# EAGLE library part 74LS189 (library ds_ic_memory)
64 Bit RAM with 3 State Output
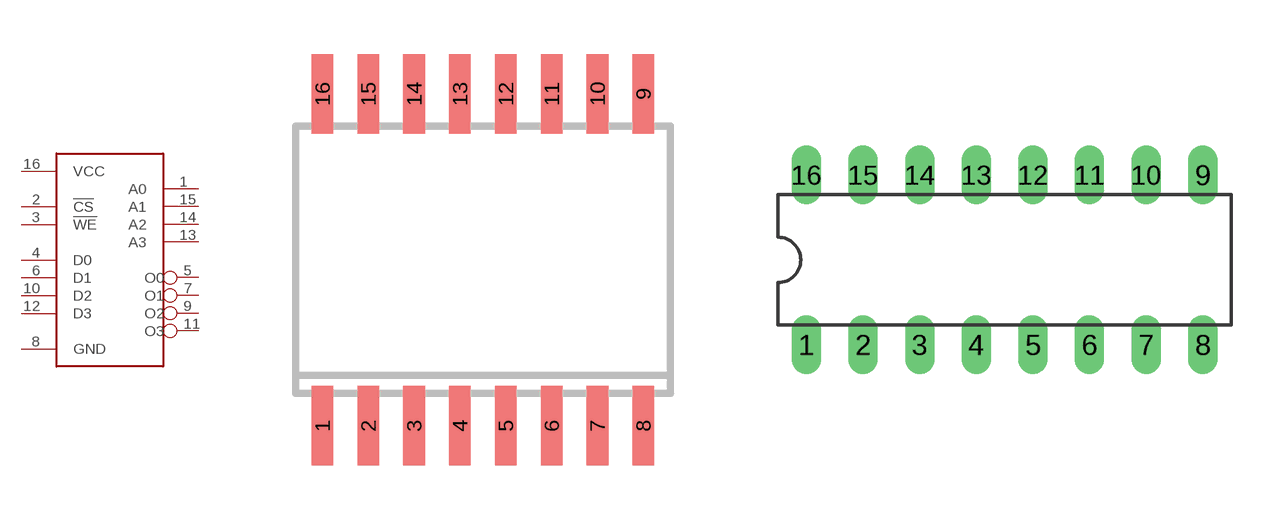
[diagram p4: symbol with the pads of SOIC16W; footprints SOIC16W, DIP16]

Designator prefix -

## 74LS189  [SOIC16W]
1  A0
2  !CS
3  !WE
4  D0
5  O0
6  D1
7  O1
8  GND
9  O2
10  D2
11  O3
12  D3
13  A3
14  A2
15  A1
16  VCC

## 74LS189DIP  [DIP16]
Pads as for SOIC16W

## Footprint SOIC16W (pad centres in mm)
smd 0.6 x 2.2: 1 -4.445,-4.6; 2 -3.175,-4.6; 3 -1.905,-4.6; 4 -0.635,-4.6; 5 0.635,-4.6; 6 1.905,-4.6; 7 3.175,-4.6; 8 4.445,-4.6; 9 4.445,4.6; 10 3.175,4.6; 11 1.905,4.6; 12 0.635,4.6; 13 -0.635,4.6; 14 -1.905,4.6; 15 -3.175,4.6; 16 -4.445,4.6

## Footprint DIP16 (pad centres in mm)
drill 0.813 long: 1 -8.89,-3.81; 2 -6.35,-3.81; 3 -3.81,-3.81; 4 -1.27,-3.81; 5 1.27,-3.81; 6 3.81,-3.81; 7 6.35,-3.81; 8 8.89,-3.81; 9 8.89,3.81; 10 6.35,3.81; 11 3.81,3.81; 12 1.27,3.81; 13 -1.27,3.81; 14 -3.81,3.81; 15 -6.35,3.81; 16 -8.89,3.81